# EAGLE library part 524265-E (library 524265-E)
PCB Mount Header, Right Angle, Cable-to-Board, 6 Position, 6.2 mm [.244 in] Centerline, Fully Shrouded, Gold (Au), Surface Mount, ERNI VolTron 1000 Source: Datasheet <https://www.te.com/commerce/DocumentDelivery/DDEController?Action=showdoc&DocId=Customer Drawing524266-EA1pdfEnglishENG_CD_524266-E_A1.pdf524265-E>
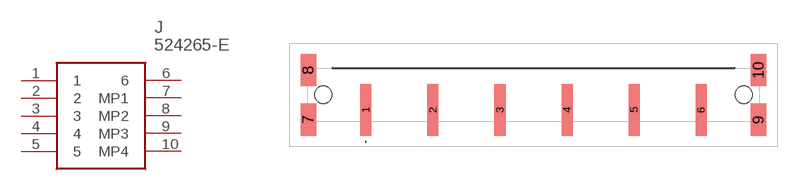
[diagram p0: symbol with the pads of 524265E; footprint 524265E]

Designator prefix J

## 524265-E (Description: PCB Mount Header, Right Angle, Cable-to-Board, 6 Position, 6.2 mm [.244 in] Centerline, Fully Shrouded, Gold (Au), Surface Mount, ERNI VolTron 1000; Height: 9.4mm; Manufacturer_Name: TE Connectivity; Manufacturer_Part_Number: 524265-E)  [524265E]
1  1
2  2
3  3
4  4
5  5
6  6
7  MP1
8  MP2
9  MP3
10  MP4

## Footprint 524265E (pad centres in mm)
524265-E-1
smd 1.02 x 4.8: 1 -15.5,-1.4; 2 -9.3,-1.4; 3 -3.1,-1.4; 4 3.1,-1.4; 5 9.3,-1.4; 6 15.5,-1.4
smd 1.45 x 3: 7 -20.825,-2.3; 8 -20.825,2.3; 9 20.825,-2.3; 10 20.825,2.3
hole 1.6 at -19.45,0
hole 1.6 at 19.45,0